# EAGLE library part C8051F527 (library wheat)
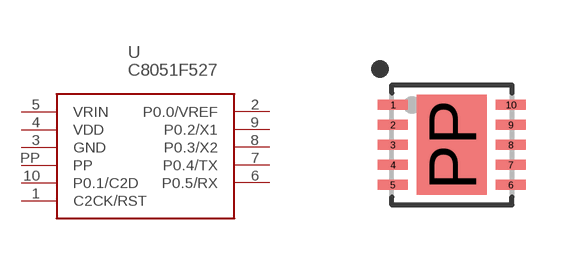
[diagram p199: symbol with the pads of QFN10_2_SILABS; footprint QFN10_2_SILABS]

Designator prefix U

## C8051F527A-IM  [QFN10_2_SILABS]
1  C2CK/RST
2  P0.0/VREF
3  GND  pwr
4  VDD  pwr
5  VRIN  pwr
6  P0.5/RX
7  P0.4/TX
8  P0.3/X2
9  P0.2/X1
10  P0.1/C2D
PP  PP  pwr

## Footprint QFN10_2_SILABS (pad centres in mm)
smd 0.75 x 0.25: 1 -1.475,1; 2 -1.475,0.5; 3 -1.475,0; 4 -1.475,-0.5; 5 -1.475,-1; 6 1.475,-1; 7 1.475,-0.5; 8 1.475,0; 9 1.475,0.5; 10 1.475,1
smd 1.75 x 2.5: PP 0,0